# EAGLE library part CH32V203F6P6 (library CH32V203F4P6)
CH32V003F4P6
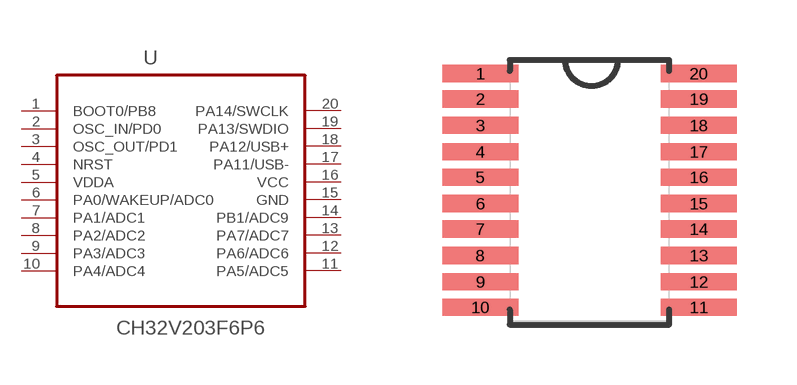
[diagram p0: symbol with the pads of SSOP-20N; footprint SSOP-20N]

Designator prefix U

## CH32V203F6P6  [SSOP-20N]
1  BOOT0/PB8
2  OSC_IN/PD0  in
3  OSC_OUT/PD1  in
4  NRST  in
5  VDDA  in
6  PA0/WAKEUP/ADC0  in
7  PA1/ADC1  out
8  PA2/ADC2  in
9  PA3/ADC3  out
10  PA4/ADC4  in
11  PA5/ADC5  in
12  PA6/ADC6  in
13  PA7/ADC7  out
14  PB1/ADC9  out
15  GND  pas
16  VCC  pwr
17  PA11/USB-  out
18  PA12/USB+  out
19  PA13/SWDIO  out
20  PA14/SWCLK  out

## Footprint SSOP-20N (pad centres in mm)
CH32V003F4P6
smd 1.905 x 0.432: 1 -2.732,2.921; 2 -2.732,2.286; 3 -2.732,1.626; 4 -2.732,0.965; 5 -2.732,0.33; 6 -2.732,-0.33; 7 -2.732,-0.965; 8 -2.732,-1.626; 9 -2.732,-2.286; 10 -2.732,-2.921; 11 2.732,-2.921; 12 2.732,-2.286; 13 2.732,-1.626; 14 2.732,-0.965; 15 2.732,-0.33; 16 2.732,0.33; 17 2.732,0.965; 18 2.732,1.626; 19 2.732,2.286; 20 2.732,2.921